# Altium footprint library PCB - LEADLESS - QFN - TI VQFN-48 RSL0048B.PcbLib: 1 footprints
Each footprint in its own frame and in the unit in brackets; x right, y up, seen from the top. Pads: shape width x height; smd on the part's side, far side on the other; paste and mask are expansions set on the pad; w line width, h text height; cw(c..) or ccw(c..) is an arc to the next point about the centre after c.
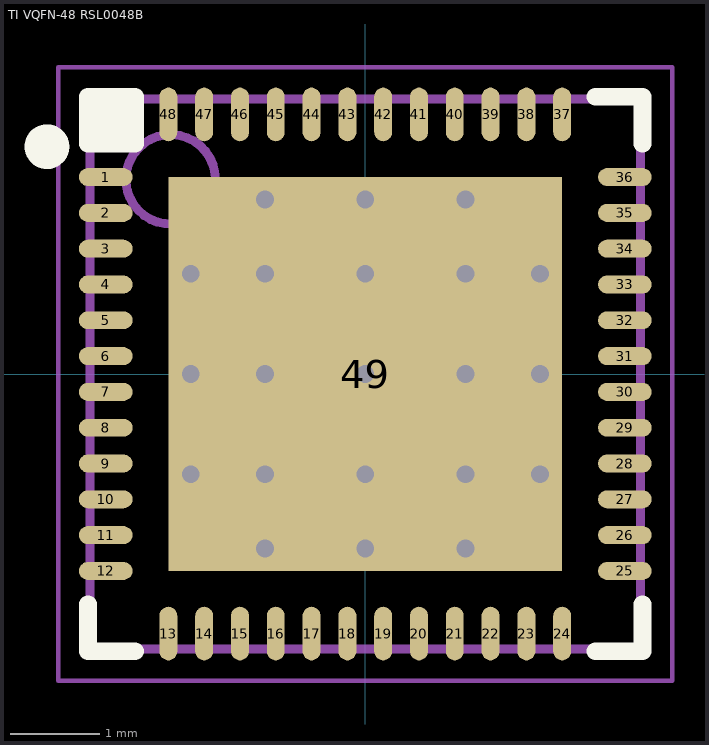
[diagram p0: the footprint, top view; thin cyan lines are the x and y axes]

## TI VQFN-48 RSL0048B [mm] "QFN, 48-Leads, Body 6.00x6.00mm, Pitch 0.40mm, Thermal Pad 4.40x4.40mm, IPC Medium Density"
height 1
pads (49):
  oval 0.6x0.2 smd: 1(-2.9,2.2) 2(-2.9,1.8) 3(-2.9,1.4) 4(-2.9,1) 5(-2.9,0.6) 6(-2.9,0.2) 7(-2.9,-0.2) 8(-2.9,-0.6) 9(-2.9,-1) 10(-2.9,-1.4) 11(-2.9,-1.8) 12(-2.9,-2.2) 25(2.9,-2.2) 26(2.9,-1.8) 27(2.9,-1.4) 28(2.9,-1) 29(2.9,-0.6) 30(2.9,-0.2) 31(2.9,0.2) 32(2.9,0.6) 33(2.9,1) 34(2.9,1.4) 35(2.9,1.8) 36(2.9,2.2)
  oval 0.2x0.6 smd: 13(-2.2,-2.9) 14(-1.8,-2.9) 15(-1.4,-2.9) 16(-1,-2.9) 17(-0.6,-2.9) 18(-0.2,-2.9) 19(0.2,-2.9) 20(0.6,-2.9) 21(1,-2.9) 22(1.4,-2.9) 23(1.8,-2.9) 24(2.2,-2.9) 37(2.2,2.9) 38(1.8,2.9) 39(1.4,2.9) 40(1,2.9) 41(0.6,2.9) 42(0.2,2.9) 43(-0.2,2.9) 44(-0.6,2.9) 45(-1,2.9) 46(-1.4,2.9) 47(-1.8,2.9) 48(-2.2,2.9)
  rect 4.4x4.4 smd paste-2539.97: 49(0,0)
via 1.95,1.12 diameter 0.5 hole 0.2
via 1.12,-1.95 diameter 0.5 hole 0.2
via 1.12,1.95 diameter 0.5 hole 0.2
via 1.12,-1.12 diameter 0.5 hole 0.2
via 1.12,1.12 diameter 0.5 hole 0.2
via 1.95,-1.12 diameter 0.5 hole 0.2
via 1.95,0 diameter 0.5 hole 0.2
via 1.12,0 diameter 0.5 hole 0.2
via -1.95,-1.12 diameter 0.5 hole 0.2
via -1.12,-1.12 diameter 0.5 hole 0.2
via 0,-1.95 diameter 0.5 hole 0.2
via -1.12,1.12 diameter 0.5 hole 0.2
via -1.95,1.12 diameter 0.5 hole 0.2
via 0,1.95 diameter 0.5 hole 0.2
via -1.12,1.95 diameter 0.5 hole 0.2
via -1.12,-1.95 diameter 0.5 hole 0.2
via 0,1.12 diameter 0.5 hole 0.2
via 0,-1.12 diameter 0.5 hole 0.2
via -1.12,0 diameter 0.5 hole 0.2
via -1.95,0 diameter 0.5 hole 0.2
via 0,0 diameter 0.5 hole 0.2
Top Overlay:
  circle w0.25: c-3.556,2.54 r0.125
  rectangle: -3.098,2.573 -2.573,3.098
  lines w0.2: -3.098,-2.573 -3.098,-3.098 -2.573,-3.098 ; 2.573,-3.098 3.098,-3.098 3.098,-2.573 ; 2.573,3.098 3.098,3.098 3.098,2.573 ; -3.098,2.573 -2.573,2.573 -2.573,3.098 -3.098,3.098 -3.098,2.573
Top Paste:
  drawing of 16 lines, arcs and shapes, not listed
Mechanical 13:
  circle w0.1: c-2.175,2.175 r0.5
  lines w0.1: -3.075,-3.075 -3.075,3.075 3.075,3.075 3.075,-3.075 -3.075,-3.075
Mechanical 15:
  lines w0.05: -3.429,-3.429 -3.429,3.429 3.429,3.429 3.429,-3.429 -3.429,-3.429
  lines w0.1: -0.5,0 0.5,0 ; 0,-0.5 0,0.5
3D body "TI VQFN-48 RSL0048B.step": height 1, standoff 0, extent -3.095,-3.095 3.095,3.095